# Altium footprint library Connector_Samtec_HLE_SMD.PcbLib: 290 footprints (part 24 of 24)
Each footprint in its own frame and in the unit in brackets; x right, y up, seen from the top. Pads: shape width x height; smd on the part's side, far side on the other; paste and mask are expansions set on the pad; w line width, h text height; cw(c..) or ccw(c..) is an arc to the next point about the centre after c.
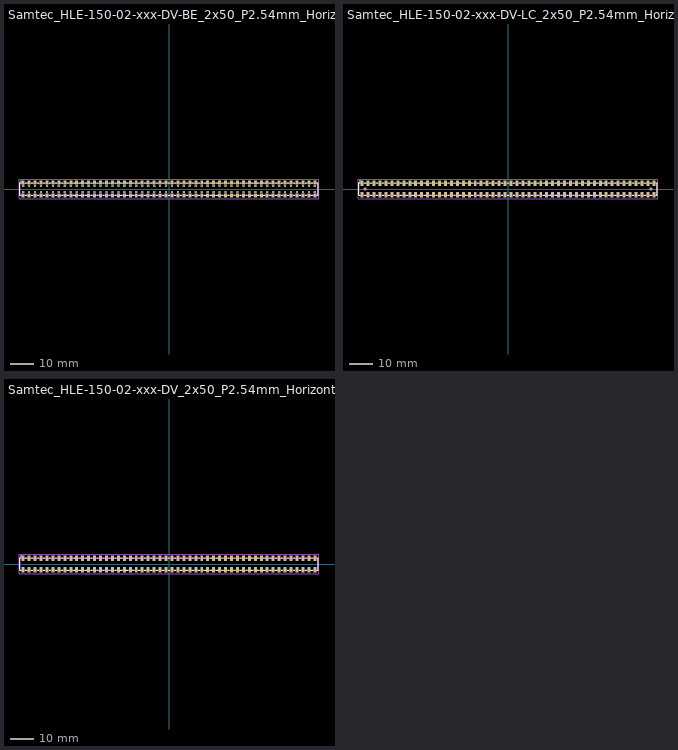
[diagram p23: the footprints below, top view; thin cyan lines are the x and y axes]

## Samtec_HLE-150-02-xxx-DV-BE_2x50_P2.54mm_Horizontal [mm]
pads (200):
  rect 1.27x1.68 smd: 1(-62.23,2.72) 2(-62.23,-2.72) 3(-59.69,2.72) 4(-59.69,-2.72) 5(-57.15,2.72) 6(-57.15,-2.72) 7(-54.61,2.72) 8(-54.61,-2.72) 9(-52.07,2.72) 10(-52.07,-2.72) 11(-49.53,2.72) 12(-49.53,-2.72) 13(-46.99,2.72) 14(-46.99,-2.72) 15(-44.45,2.72) 16(-44.45,-2.72) 17(-41.91,2.72) 18(-41.91,-2.72) 19(-39.37,2.72) 20(-39.37,-2.72) 21(-36.83,2.72) 22(-36.83,-2.72) 23(-34.29,2.72) 24(-34.29,-2.72) 25(-31.75,2.72) 26(-31.75,-2.72) 27(-29.21,2.72) 28(-29.21,-2.72) 29(-26.67,2.72) 30(-26.67,-2.72) 31(-24.13,2.72) 32(-24.13,-2.72) 33(-21.59,2.72) 34(-21.59,-2.72) 35(-19.05,2.72) 36(-19.05,-2.72) 37(-16.51,2.72) 38(-16.51,-2.72) 39(-13.97,2.72) 40(-13.97,-2.72) 41(-11.43,2.72) 42(-11.43,-2.72) 43(-8.89,2.72) 44(-8.89,-2.72) 45(-6.35,2.72) 46(-6.35,-2.72) 47(-3.81,2.72) 48(-3.81,-2.72) 49(-1.27,2.72) 50(-1.27,-2.72) 51(1.27,2.72) 52(1.27,-2.72) 53(3.81,2.72) 54(3.81,-2.72) 55(6.35,2.72) 56(6.35,-2.72) 57(8.89,2.72) 58(8.89,-2.72) 59(11.43,2.72) 60(11.43,-2.72) 61(13.97,2.72) 62(13.97,-2.72) 63(16.51,2.72) 64(16.51,-2.72) 65(19.05,2.72) 66(19.05,-2.72) 67(21.59,2.72) 68(21.59,-2.72) 69(24.13,2.72) 70(24.13,-2.72) 71(26.67,2.72) 72(26.67,-2.72) 73(29.21,2.72) 74(29.21,-2.72) 75(31.75,2.72) 76(31.75,-2.72) 77(34.29,2.72) 78(34.29,-2.72) 79(36.83,2.72) 80(36.83,-2.72) 81(39.37,2.72) 82(39.37,-2.72) 83(41.91,2.72) 84(41.91,-2.72) 85(44.45,2.72) 86(44.45,-2.72) 87(46.99,2.72) 88(46.99,-2.72) 89(49.53,2.72) 90(49.53,-2.72) 91(52.07,2.72) 92(52.07,-2.72) 93(54.61,2.72) 94(54.61,-2.72) 95(57.15,2.72) 96(57.15,-2.72) 97(59.69,2.72) 98(59.69,-2.72) 99(62.23,2.72) 100(62.23,-2.72)
  round 0.97 hole 0.97: Un1(-62.23,1.27) Un2(-62.23,-1.27) Un3(-59.69,1.27) Un4(-59.69,-1.27) Un5(-57.15,1.27) Un6(-57.15,-1.27) Un7(-54.61,1.27) Un8(-54.61,-1.27) Un9(-52.07,1.27) Un10(-52.07,-1.27) Un11(-49.53,1.27) Un12(-49.53,-1.27) Un13(-46.99,1.27) Un14(-46.99,-1.27) Un15(-44.45,1.27) Un16(-44.45,-1.27) Un17(-41.91,1.27) Un18(-41.91,-1.27) Un19(-39.37,1.27) Un20(-39.37,-1.27) Un21(-36.83,1.27) Un22(-36.83,-1.27) Un23(-34.29,1.27) Un24(-34.29,-1.27) Un25(-31.75,1.27) Un26(-31.75,-1.27) Un27(-29.21,1.27) Un28(-29.21,-1.27) Un29(-26.67,1.27) Un30(-26.67,-1.27) Un31(-24.13,1.27) Un32(-24.13,-1.27) Un33(-21.59,1.27) Un34(-21.59,-1.27) Un35(-19.05,1.27) Un36(-19.05,-1.27) Un37(-16.51,1.27) Un38(-16.51,-1.27) Un39(-13.97,1.27) Un40(-13.97,-1.27) Un41(-11.43,1.27) Un42(-11.43,-1.27) Un43(-8.89,1.27) Un44(-8.89,-1.27) Un45(-6.35,1.27) Un46(-6.35,-1.27) Un47(-3.81,1.27) Un48(-3.81,-1.27) Un49(-1.27,1.27) Un50(-1.27,-1.27) Un51(1.27,1.27) Un52(1.27,-1.27) Un53(3.81,1.27) Un54(3.81,-1.27) Un55(6.35,1.27) Un56(6.35,-1.27) Un57(8.89,1.27) Un58(8.89,-1.27) Un59(11.43,1.27) Un60(11.43,-1.27) Un61(13.97,1.27) Un62(13.97,-1.27) Un63(16.51,1.27) Un64(16.51,-1.27) Un65(19.05,1.27) Un66(19.05,-1.27) Un67(21.59,1.27) Un68(21.59,-1.27) Un69(24.13,1.27) Un70(24.13,-1.27) Un71(26.67,1.27) Un72(26.67,-1.27) Un73(29.21,1.27) Un74(29.21,-1.27) Un75(31.75,1.27) Un76(31.75,-1.27) Un77(34.29,1.27) Un78(34.29,-1.27) Un79(36.83,1.27) Un80(36.83,-1.27) Un81(39.37,1.27) Un82(39.37,-1.27) Un83(41.91,1.27) Un84(41.91,-1.27) Un85(44.45,1.27) Un86(44.45,-1.27) Un87(46.99,1.27) Un88(46.99,-1.27) Un89(49.53,1.27) Un90(49.53,-1.27) Un91(52.07,1.27) Un92(52.07,-1.27) Un93(54.61,1.27) Un94(54.61,-1.27) Un95(57.15,1.27) Un96(57.15,-1.27) Un97(59.69,1.27) Un98(59.69,-1.27) Un99(62.23,1.27) Un100(62.23,-1.27)
F.SilkS:
  lines w0.254: -63.125,-2.65 -63.61,-2.65 -63.61,2.65 -63.125,2.65 -63.125,3.56 ; -61.335,-2.65 -60.585,-2.65 ; -61.335,2.65 -60.585,2.65 ; -58.795,-2.65 -58.045,-2.65 ; -58.795,2.65 -58.045,2.65 ; -56.255,-2.65 -55.505,-2.65 ; -56.255,2.65 -55.505,2.65 ; -53.715,-2.65 -52.965,-2.65 ; -53.715,2.65 -52.965,2.65 ; -51.175,-2.65 -50.425,-2.65 ; -51.175,2.65 -50.425,2.65 ; -48.635,-2.65 -47.885,-2.65 ; -48.635,2.65 -47.885,2.65 ; -46.095,-2.65 -45.345,-2.65 ; -46.095,2.65 -45.345,2.65 ; -43.555,-2.65 -42.805,-2.65 ; -43.555,2.65 -42.805,2.65 ; -41.015,-2.65 -40.265,-2.65 ; -41.015,2.65 -40.265,2.65 ; -38.475,-2.65 -37.725,-2.65 ; -38.475,2.65 -37.725,2.65 ; -35.935,-2.65 -35.185,-2.65 ; -35.935,2.65 -35.185,2.65 ; -33.395,-2.65 -32.645,-2.65 ; -33.395,2.65 -32.645,2.65 ; -30.855,-2.65 -30.105,-2.65 ; -30.855,2.65 -30.105,2.65 ; -28.315,-2.65 -27.565,-2.65 ; -28.315,2.65 -27.565,2.65 ; -25.775,-2.65 -25.025,-2.65 ; -25.775,2.65 -25.025,2.65 ; -23.235,-2.65 -22.485,-2.65 ; -23.235,2.65 -22.485,2.65 ; -20.695,-2.65 -19.945,-2.65 ; -20.695,2.65 -19.945,2.65 ; -18.155,-2.65 -17.405,-2.65 ; -18.155,2.65 -17.405,2.65 ; -15.615,-2.65 -14.865,-2.65 ; -15.615,2.65 -14.865,2.65 ; -13.075,-2.65 -12.325,-2.65 ; -13.075,2.65 -12.325,2.65 ; -10.535,-2.65 -9.785,-2.65 ; -10.535,2.65 -9.785,2.65 ; -7.995,-2.65 -7.245,-2.65 ; -7.995,2.65 -7.245,2.65 ; -5.455,-2.65 -4.705,-2.65 ; -5.455,2.65 -4.705,2.65 ; -2.915,-2.65 -2.165,-2.65 ; -2.915,2.65 -2.165,2.65 ; -0.375,-2.65 0.375,-2.65 ; -0.375,2.65 0.375,2.65 ; 2.165,-2.65 2.915,-2.65 ; 2.165,2.65 2.915,2.65 ; 4.705,-2.65 5.455,-2.65 ; 4.705,2.65 5.455,2.65 ; 7.245,-2.65 7.995,-2.65 ; 7.245,2.65 7.995,2.65 ; 9.785,-2.65 10.535,-2.65 ; 9.785,2.65 10.535,2.65 ; 12.325,-2.65 13.075,-2.65 ; 12.325,2.65 13.075,2.65 ; 14.865,-2.65 15.615,-2.65 ; 14.865,2.65 15.615,2.65 ; 17.405,-2.65 18.155,-2.65 ; 17.405,2.65 18.155,2.65 ; 19.945,-2.65 20.695,-2.65 ; 19.945,2.65 20.695,2.65 ; 22.485,-2.65 23.235,-2.65 ; 22.485,2.65 23.235,2.65 ; 25.025,-2.65 25.775,-2.65 ; 25.025,2.65 25.775,2.65 ; 27.565,-2.65 28.315,-2.65 ; 27.565,2.65 28.315,2.65 ; 30.105,-2.65 30.855,-2.65 ; 30.105,2.65 30.855,2.65 ; 32.645,-2.65 33.395,-2.65 ; 32.645,2.65 33.395,2.65 ; 35.185,-2.65 35.935,-2.65 ; 35.185,2.65 35.935,2.65 ; 37.725,-2.65 38.475,-2.65 ; 37.725,2.65 38.475,2.65 ; 40.265,-2.65 41.015,-2.65 ; 40.265,2.65 41.015,2.65 ; 42.805,-2.65 43.555,-2.65 ; 42.805,2.65 43.555,2.65 ; 45.345,-2.65 46.095,-2.65 ; 45.345,2.65 46.095,2.65 ; 47.885,-2.65 48.635,-2.65 ; 47.885,2.65 48.635,2.65 ; 50.425,-2.65 51.175,-2.65 ; 50.425,2.65 51.175,2.65 ; 52.965,-2.65 53.715,-2.65 ; 52.965,2.65 53.715,2.65 ; 55.505,-2.65 56.255,-2.65 ; 55.505,2.65 56.255,2.65 ; 58.045,-2.65 58.795,-2.65 ; 58.045,2.65 58.795,2.65 ; 60.585,-2.65 61.335,-2.65 ; 60.585,2.65 61.335,2.65 ; 63.125,-2.65 63.61,-2.65 63.61,2.65 63.125,2.65
Top Assembly:
  lines w0.254: -62.73,2.54 -62.23,1.833 -61.73,2.54 ; -63.5,-2.54 63.5,-2.54 63.5,2.54 -63.5,2.54 -63.5,-2.54
  text "'.Designator'" at -4.047,-2.68 h1
Top Courtyard:
  lines w0.254: -64,-4.07 64,-4.07 64,4.07 -64,4.07 -64,-4.07
Top Designator:
  text ".Designator" at -7.618,-0.508 h1.52

## Samtec_HLE-150-02-xxx-DV-LC_2x50_P2.54mm_Horizontal [mm]
pads (102):
  rect 1.27x2.29 smd: 1(-62.23,2.525) 2(-62.23,-2.525) 3(-59.69,2.525) 4(-59.69,-2.525) 5(-57.15,2.525) 6(-57.15,-2.525) 7(-54.61,2.525) 8(-54.61,-2.525) 9(-52.07,2.525) 10(-52.07,-2.525) 11(-49.53,2.525) 12(-49.53,-2.525) 13(-46.99,2.525) 14(-46.99,-2.525) 15(-44.45,2.525) 16(-44.45,-2.525) 17(-41.91,2.525) 18(-41.91,-2.525) 19(-39.37,2.525) 20(-39.37,-2.525) 21(-36.83,2.525) 22(-36.83,-2.525) 23(-34.29,2.525) 24(-34.29,-2.525) 25(-31.75,2.525) 26(-31.75,-2.525) 27(-29.21,2.525) 28(-29.21,-2.525) 29(-26.67,2.525) 30(-26.67,-2.525) 31(-24.13,2.525) 32(-24.13,-2.525) 33(-21.59,2.525) 34(-21.59,-2.525) 35(-19.05,2.525) 36(-19.05,-2.525) 37(-16.51,2.525) 38(-16.51,-2.525) 39(-13.97,2.525) 40(-13.97,-2.525) 41(-11.43,2.525) 42(-11.43,-2.525) 43(-8.89,2.525) 44(-8.89,-2.525) 45(-6.35,2.525) 46(-6.35,-2.525) 47(-3.81,2.525) 48(-3.81,-2.525) 49(-1.27,2.525) 50(-1.27,-2.525) 51(1.27,2.525) 52(1.27,-2.525) 53(3.81,2.525) 54(3.81,-2.525) 55(6.35,2.525) 56(6.35,-2.525) 57(8.89,2.525) 58(8.89,-2.525) 59(11.43,2.525) 60(11.43,-2.525) 61(13.97,2.525) 62(13.97,-2.525) 63(16.51,2.525) 64(16.51,-2.525) 65(19.05,2.525) 66(19.05,-2.525) 67(21.59,2.525) 68(21.59,-2.525) 69(24.13,2.525) 70(24.13,-2.525) 71(26.67,2.525) 72(26.67,-2.525) 73(29.21,2.525) 74(29.21,-2.525) 75(31.75,2.525) 76(31.75,-2.525) 77(34.29,2.525) 78(34.29,-2.525) 79(36.83,2.525) 80(36.83,-2.525) 81(39.37,2.525) 82(39.37,-2.525) 83(41.91,2.525) 84(41.91,-2.525) 85(44.45,2.525) 86(44.45,-2.525) 87(46.99,2.525) 88(46.99,-2.525) 89(49.53,2.525) 90(49.53,-2.525) 91(52.07,2.525) 92(52.07,-2.525) 93(54.61,2.525) 94(54.61,-2.525) 95(57.15,2.525) 96(57.15,-2.525) 97(59.69,2.525) 98(59.69,-2.525) 99(62.23,2.525) 100(62.23,-2.525)
  round 1.19 hole 1.19: Un1(-60.96,0) Un2(60.96,0)
F.SilkS:
  lines w0.254: -63.125,-2.65 -63.61,-2.65 -63.61,2.65 -63.125,2.65 -63.125,3.67 ; -61.335,-2.65 -60.585,-2.65 ; -61.335,2.65 -60.585,2.65 ; -58.795,-2.65 -58.045,-2.65 ; -58.795,2.65 -58.045,2.65 ; -56.255,-2.65 -55.505,-2.65 ; -56.255,2.65 -55.505,2.65 ; -53.715,-2.65 -52.965,-2.65 ; -53.715,2.65 -52.965,2.65 ; -51.175,-2.65 -50.425,-2.65 ; -51.175,2.65 -50.425,2.65 ; -48.635,-2.65 -47.885,-2.65 ; -48.635,2.65 -47.885,2.65 ; -46.095,-2.65 -45.345,-2.65 ; -46.095,2.65 -45.345,2.65 ; -43.555,-2.65 -42.805,-2.65 ; -43.555,2.65 -42.805,2.65 ; -41.015,-2.65 -40.265,-2.65 ; -41.015,2.65 -40.265,2.65 ; -38.475,-2.65 -37.725,-2.65 ; -38.475,2.65 -37.725,2.65 ; -35.935,-2.65 -35.185,-2.65 ; -35.935,2.65 -35.185,2.65 ; -33.395,-2.65 -32.645,-2.65 ; -33.395,2.65 -32.645,2.65 ; -30.855,-2.65 -30.105,-2.65 ; -30.855,2.65 -30.105,2.65 ; -28.315,-2.65 -27.565,-2.65 ; -28.315,2.65 -27.565,2.65 ; -25.775,-2.65 -25.025,-2.65 ; -25.775,2.65 -25.025,2.65 ; -23.235,-2.65 -22.485,-2.65 ; -23.235,2.65 -22.485,2.65 ; -20.695,-2.65 -19.945,-2.65 ; -20.695,2.65 -19.945,2.65 ; -18.155,-2.65 -17.405,-2.65 ; -18.155,2.65 -17.405,2.65 ; -15.615,-2.65 -14.865,-2.65 ; -15.615,2.65 -14.865,2.65 ; -13.075,-2.65 -12.325,-2.65 ; -13.075,2.65 -12.325,2.65 ; -10.535,-2.65 -9.785,-2.65 ; -10.535,2.65 -9.785,2.65 ; -7.995,-2.65 -7.245,-2.65 ; -7.995,2.65 -7.245,2.65 ; -5.455,-2.65 -4.705,-2.65 ; -5.455,2.65 -4.705,2.65 ; -2.915,-2.65 -2.165,-2.65 ; -2.915,2.65 -2.165,2.65 ; -0.375,-2.65 0.375,-2.65 ; -0.375,2.65 0.375,2.65 ; 2.165,-2.65 2.915,-2.65 ; 2.165,2.65 2.915,2.65 ; 4.705,-2.65 5.455,-2.65 ; 4.705,2.65 5.455,2.65 ; 7.245,-2.65 7.995,-2.65 ; 7.245,2.65 7.995,2.65 ; 9.785,-2.65 10.535,-2.65 ; 9.785,2.65 10.535,2.65 ; 12.325,-2.65 13.075,-2.65 ; 12.325,2.65 13.075,2.65 ; 14.865,-2.65 15.615,-2.65 ; 14.865,2.65 15.615,2.65 ; 17.405,-2.65 18.155,-2.65 ; 17.405,2.65 18.155,2.65 ; 19.945,-2.65 20.695,-2.65 ; 19.945,2.65 20.695,2.65 ; 22.485,-2.65 23.235,-2.65 ; 22.485,2.65 23.235,2.65 ; 25.025,-2.65 25.775,-2.65 ; 25.025,2.65 25.775,2.65 ; 27.565,-2.65 28.315,-2.65 ; 27.565,2.65 28.315,2.65 ; 30.105,-2.65 30.855,-2.65 ; 30.105,2.65 30.855,2.65 ; 32.645,-2.65 33.395,-2.65 ; 32.645,2.65 33.395,2.65 ; 35.185,-2.65 35.935,-2.65 ; 35.185,2.65 35.935,2.65 ; 37.725,-2.65 38.475,-2.65 ; 37.725,2.65 38.475,2.65 ; 40.265,-2.65 41.015,-2.65 ; 40.265,2.65 41.015,2.65 ; 42.805,-2.65 43.555,-2.65 ; 42.805,2.65 43.555,2.65 ; 45.345,-2.65 46.095,-2.65 ; 45.345,2.65 46.095,2.65 ; 47.885,-2.65 48.635,-2.65 ; 47.885,2.65 48.635,2.65 ; 50.425,-2.65 51.175,-2.65 ; 50.425,2.65 51.175,2.65 ; 52.965,-2.65 53.715,-2.65 ; 52.965,2.65 53.715,2.65 ; 55.505,-2.65 56.255,-2.65 ; 55.505,2.65 56.255,2.65 ; 58.045,-2.65 58.795,-2.65 ; 58.045,2.65 58.795,2.65 ; 60.585,-2.65 61.335,-2.65 ; 60.585,2.65 61.335,2.65 ; 63.125,-2.65 63.61,-2.65 63.61,2.65 63.125,2.65
Top Assembly:
  lines w0.254: -62.73,2.54 -62.23,1.833 -61.73,2.54 ; -63.5,-2.54 63.5,-2.54 63.5,2.54 -63.5,2.54 -63.5,-2.54
  text "'.Designator'" at -4.047,-2.68 h1
Top Courtyard:
  lines w0.254: -64,-4.17 64,-4.17 64,4.17 -64,4.17 -64,-4.17
Top Designator:
  text ".Designator" at -7.618,-0.508 h1.52

## Samtec_HLE-150-02-xxx-DV_2x50_P2.54mm_Horizontal [mm]
pads (100):
  rect 1.27x2.29 smd: 1(-62.23,2.525) 2(-62.23,-2.525) 3(-59.69,2.525) 4(-59.69,-2.525) 5(-57.15,2.525) 6(-57.15,-2.525) 7(-54.61,2.525) 8(-54.61,-2.525) 9(-52.07,2.525) 10(-52.07,-2.525) 11(-49.53,2.525) 12(-49.53,-2.525) 13(-46.99,2.525) 14(-46.99,-2.525) 15(-44.45,2.525) 16(-44.45,-2.525) 17(-41.91,2.525) 18(-41.91,-2.525) 19(-39.37,2.525) 20(-39.37,-2.525) 21(-36.83,2.525) 22(-36.83,-2.525) 23(-34.29,2.525) 24(-34.29,-2.525) 25(-31.75,2.525) 26(-31.75,-2.525) 27(-29.21,2.525) 28(-29.21,-2.525) 29(-26.67,2.525) 30(-26.67,-2.525) 31(-24.13,2.525) 32(-24.13,-2.525) 33(-21.59,2.525) 34(-21.59,-2.525) 35(-19.05,2.525) 36(-19.05,-2.525) 37(-16.51,2.525) 38(-16.51,-2.525) 39(-13.97,2.525) 40(-13.97,-2.525) 41(-11.43,2.525) 42(-11.43,-2.525) 43(-8.89,2.525) 44(-8.89,-2.525) 45(-6.35,2.525) 46(-6.35,-2.525) 47(-3.81,2.525) 48(-3.81,-2.525) 49(-1.27,2.525) 50(-1.27,-2.525) 51(1.27,2.525) 52(1.27,-2.525) 53(3.81,2.525) 54(3.81,-2.525) 55(6.35,2.525) 56(6.35,-2.525) 57(8.89,2.525) 58(8.89,-2.525) 59(11.43,2.525) 60(11.43,-2.525) 61(13.97,2.525) 62(13.97,-2.525) 63(16.51,2.525) 64(16.51,-2.525) 65(19.05,2.525) 66(19.05,-2.525) 67(21.59,2.525) 68(21.59,-2.525) 69(24.13,2.525) 70(24.13,-2.525) 71(26.67,2.525) 72(26.67,-2.525) 73(29.21,2.525) 74(29.21,-2.525) 75(31.75,2.525) 76(31.75,-2.525) 77(34.29,2.525) 78(34.29,-2.525) 79(36.83,2.525) 80(36.83,-2.525) 81(39.37,2.525) 82(39.37,-2.525) 83(41.91,2.525) 84(41.91,-2.525) 85(44.45,2.525) 86(44.45,-2.525) 87(46.99,2.525) 88(46.99,-2.525) 89(49.53,2.525) 90(49.53,-2.525) 91(52.07,2.525) 92(52.07,-2.525) 93(54.61,2.525) 94(54.61,-2.525) 95(57.15,2.525) 96(57.15,-2.525) 97(59.69,2.525) 98(59.69,-2.525) 99(62.23,2.525) 100(62.23,-2.525)
F.SilkS:
  lines w0.254: -63.125,-2.65 -63.61,-2.65 -63.61,2.65 -63.125,2.65 -63.125,3.67 ; -61.335,-2.65 -60.585,-2.65 ; -61.335,2.65 -60.585,2.65 ; -58.795,-2.65 -58.045,-2.65 ; -58.795,2.65 -58.045,2.65 ; -56.255,-2.65 -55.505,-2.65 ; -56.255,2.65 -55.505,2.65 ; -53.715,-2.65 -52.965,-2.65 ; -53.715,2.65 -52.965,2.65 ; -51.175,-2.65 -50.425,-2.65 ; -51.175,2.65 -50.425,2.65 ; -48.635,-2.65 -47.885,-2.65 ; -48.635,2.65 -47.885,2.65 ; -46.095,-2.65 -45.345,-2.65 ; -46.095,2.65 -45.345,2.65 ; -43.555,-2.65 -42.805,-2.65 ; -43.555,2.65 -42.805,2.65 ; -41.015,-2.65 -40.265,-2.65 ; -41.015,2.65 -40.265,2.65 ; -38.475,-2.65 -37.725,-2.65 ; -38.475,2.65 -37.725,2.65 ; -35.935,-2.65 -35.185,-2.65 ; -35.935,2.65 -35.185,2.65 ; -33.395,-2.65 -32.645,-2.65 ; -33.395,2.65 -32.645,2.65 ; -30.855,-2.65 -30.105,-2.65 ; -30.855,2.65 -30.105,2.65 ; -28.315,-2.65 -27.565,-2.65 ; -28.315,2.65 -27.565,2.65 ; -25.775,-2.65 -25.025,-2.65 ; -25.775,2.65 -25.025,2.65 ; -23.235,-2.65 -22.485,-2.65 ; -23.235,2.65 -22.485,2.65 ; -20.695,-2.65 -19.945,-2.65 ; -20.695,2.65 -19.945,2.65 ; -18.155,-2.65 -17.405,-2.65 ; -18.155,2.65 -17.405,2.65 ; -15.615,-2.65 -14.865,-2.65 ; -15.615,2.65 -14.865,2.65 ; -13.075,-2.65 -12.325,-2.65 ; -13.075,2.65 -12.325,2.65 ; -10.535,-2.65 -9.785,-2.65 ; -10.535,2.65 -9.785,2.65 ; -7.995,-2.65 -7.245,-2.65 ; -7.995,2.65 -7.245,2.65 ; -5.455,-2.65 -4.705,-2.65 ; -5.455,2.65 -4.705,2.65 ; -2.915,-2.65 -2.165,-2.65 ; -2.915,2.65 -2.165,2.65 ; -0.375,-2.65 0.375,-2.65 ; -0.375,2.65 0.375,2.65 ; 2.165,-2.65 2.915,-2.65 ; 2.165,2.65 2.915,2.65 ; 4.705,-2.65 5.455,-2.65 ; 4.705,2.65 5.455,2.65 ; 7.245,-2.65 7.995,-2.65 ; 7.245,2.65 7.995,2.65 ; 9.785,-2.65 10.535,-2.65 ; 9.785,2.65 10.535,2.65 ; 12.325,-2.65 13.075,-2.65 ; 12.325,2.65 13.075,2.65 ; 14.865,-2.65 15.615,-2.65 ; 14.865,2.65 15.615,2.65 ; 17.405,-2.65 18.155,-2.65 ; 17.405,2.65 18.155,2.65 ; 19.945,-2.65 20.695,-2.65 ; 19.945,2.65 20.695,2.65 ; 22.485,-2.65 23.235,-2.65 ; 22.485,2.65 23.235,2.65 ; 25.025,-2.65 25.775,-2.65 ; 25.025,2.65 25.775,2.65 ; 27.565,-2.65 28.315,-2.65 ; 27.565,2.65 28.315,2.65 ; 30.105,-2.65 30.855,-2.65 ; 30.105,2.65 30.855,2.65 ; 32.645,-2.65 33.395,-2.65 ; 32.645,2.65 33.395,2.65 ; 35.185,-2.65 35.935,-2.65 ; 35.185,2.65 35.935,2.65 ; 37.725,-2.65 38.475,-2.65 ; 37.725,2.65 38.475,2.65 ; 40.265,-2.65 41.015,-2.65 ; 40.265,2.65 41.015,2.65 ; 42.805,-2.65 43.555,-2.65 ; 42.805,2.65 43.555,2.65 ; 45.345,-2.65 46.095,-2.65 ; 45.345,2.65 46.095,2.65 ; 47.885,-2.65 48.635,-2.65 ; 47.885,2.65 48.635,2.65 ; 50.425,-2.65 51.175,-2.65 ; 50.425,2.65 51.175,2.65 ; 52.965,-2.65 53.715,-2.65 ; 52.965,2.65 53.715,2.65 ; 55.505,-2.65 56.255,-2.65 ; 55.505,2.65 56.255,2.65 ; 58.045,-2.65 58.795,-2.65 ; 58.045,2.65 58.795,2.65 ; 60.585,-2.65 61.335,-2.65 ; 60.585,2.65 61.335,2.65 ; 63.125,-2.65 63.61,-2.65 63.61,2.65 63.125,2.65
Top Assembly:
  lines w0.254: -62.73,2.54 -62.23,1.833 -61.73,2.54 ; -63.5,-2.54 63.5,-2.54 63.5,2.54 -63.5,2.54 -63.5,-2.54
  text "'.Designator'" at -4.047,-2.68 h1
Top Courtyard:
  lines w0.254: -64,-4.17 64,-4.17 64,4.17 -64,4.17 -64,-4.17
Top Designator:
  text ".Designator" at -7.618,-0.508 h1.52